# Altium schematic symbol library _Library.SchLib: 5 symbols
Pins are listed as number, name and electrical type; pins without a type are passive.

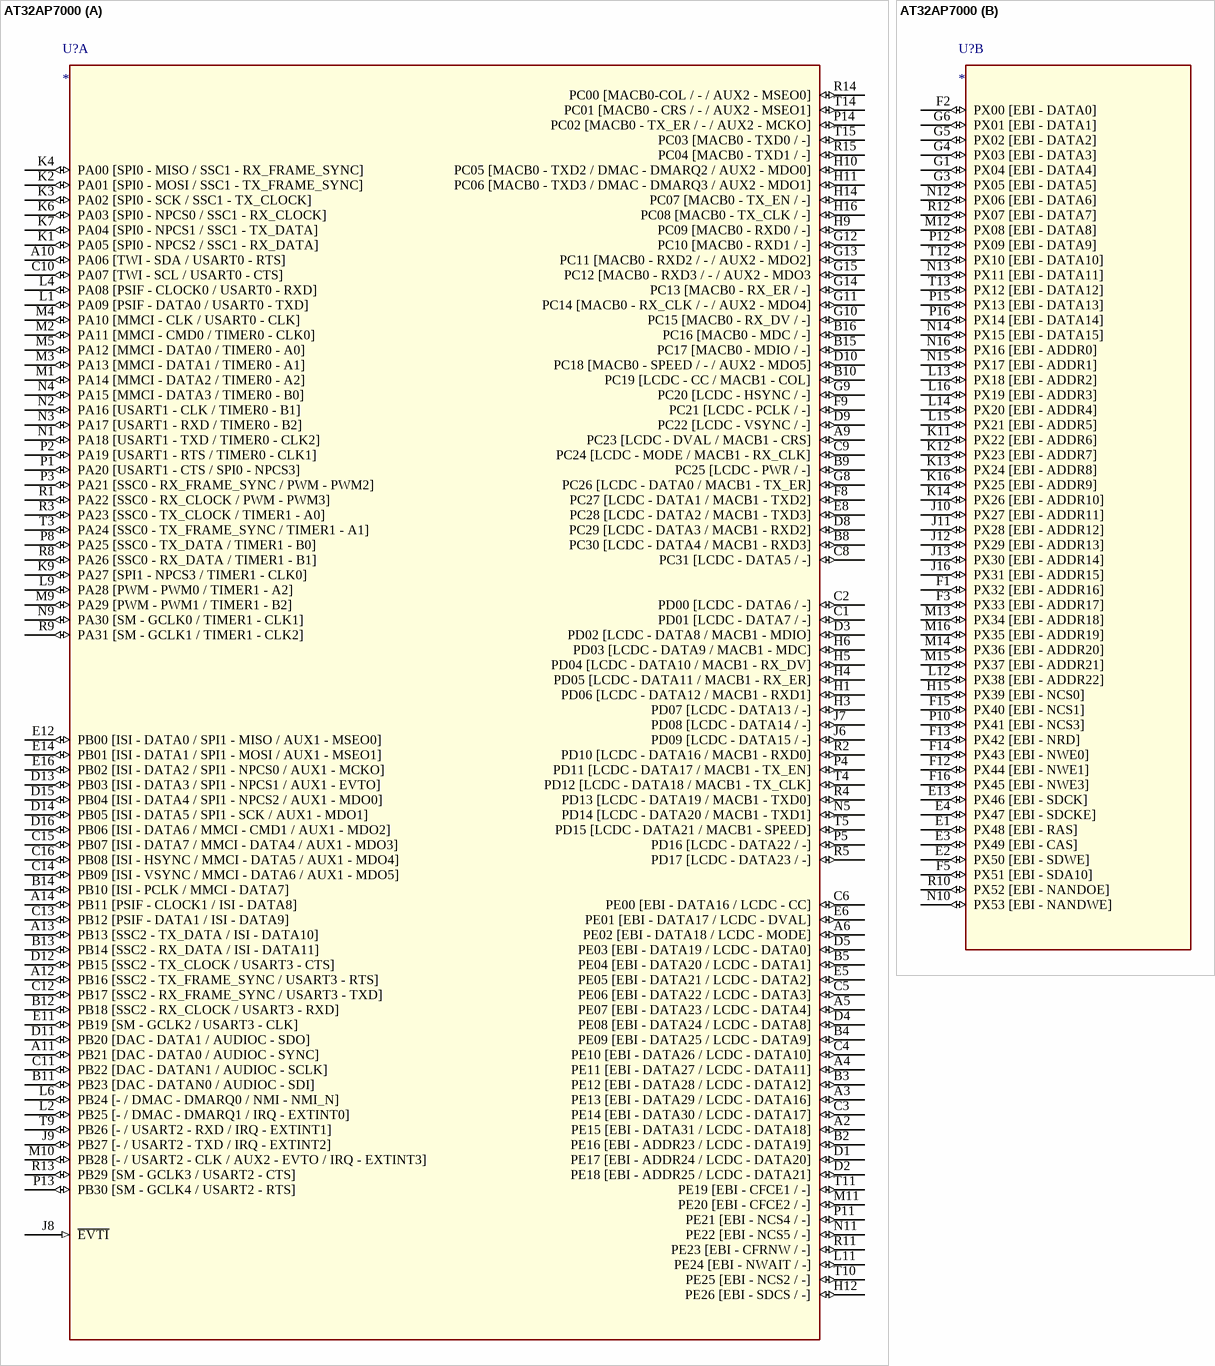
[diagram p0: symbol AT32AP7000]

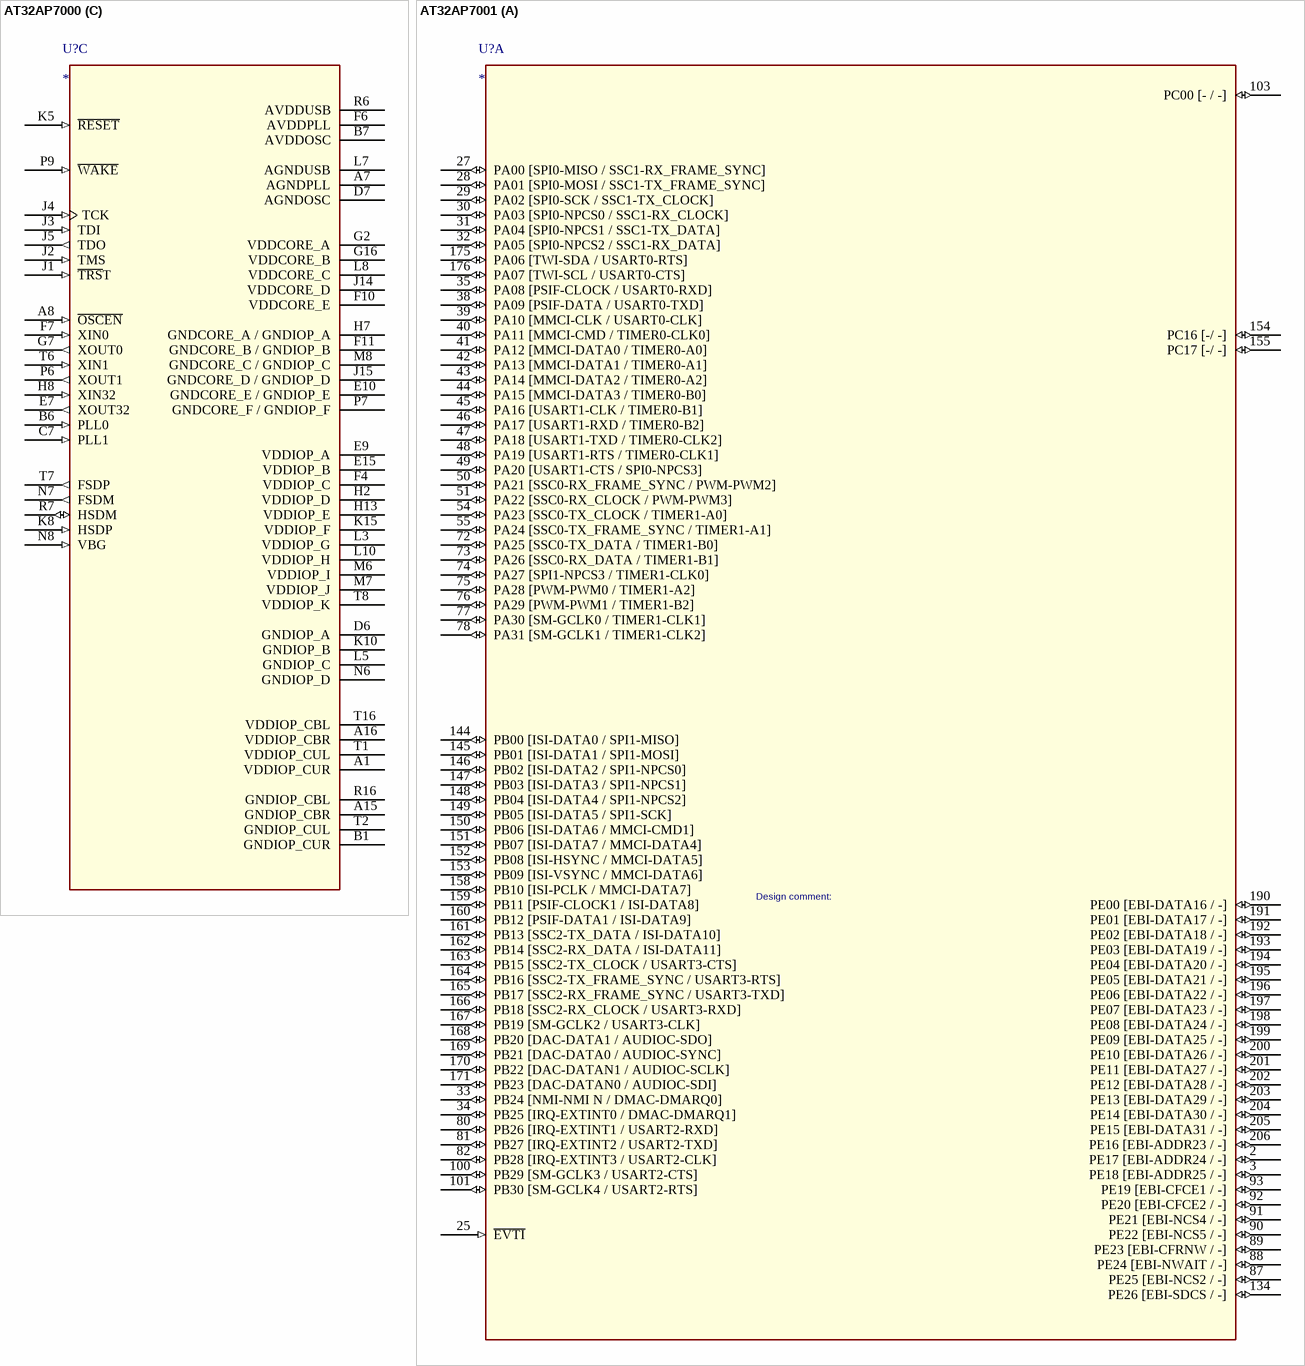
[diagram p1: symbols AT32AP7000 to AT32AP7001]

## AT32AP7000
designator U?
footprint BGA256C100P16X16_1700X1700X350 (BGA, 256-Leads, Body 17,0x17,0mm,  Pitch 1,00mm)
part A pins: A2 PE15 [EBI - DATA31 / LCDC - DATA18] (io), A3 PE13 [EBI - DATA29 / LCDC - DATA16] (io), A4 PE11 [EBI - DATA27 / LCDC - DATA11] (io), A5 PE07 [EBI - DATA23 / LCDC - DATA4] (io), A6 PE02 [EBI - DATA18 / LCDC - MODE] (io), A9 PC23 [LCDC - DVAL / MACB1 - CRS] (io), A10 PA06 [TWI - SDA / USART0 - RTS] (io), A11 PB21 [DAC - DATA0 / AUDIOC - SYNC] (io), A12 PB16 [SSC2 - TX_FRAME_SYNC / USART3 - RTS] (io), A13 PB13 [SSC2 - TX_DATA / ISI - DATA10] (io), A14 PB11 [PSIF - CLOCK1 / ISI - DATA8] (io), B2 PE16 [EBI - ADDR23 / LCDC - DATA19] (io), B3 PE12 [EBI - DATA28 / LCDC - DATA12] (io), B4 PE09 [EBI - DATA25 / LCDC - DATA9] (io), B5 PE04 [EBI - DATA20 / LCDC - DATA1] (io), B8 PC30 [LCDC - DATA4 / MACB1 - RXD3] (io), B9 PC25 [LCDC - PWR / -] (io), B10 PC19 [LCDC - CC / MACB1 - COL] (io), B11 PB23 [DAC - DATAN0 / AUDIOC - SDI] (io), B12 PB18 [SSC2 - RX_CLOCK / USART3 - RXD] (io), B13 PB14 [SSC2 - RX_DATA / ISI - DATA11] (io), B14 PB10 [ISI - PCLK / MMCI - DATA7] (io), B15 PC17 [MACB0 - MDIO / -] (io), B16 PC16 [MACB0 - MDC / -] (io), C1 PD01 [LCDC - DATA7 / -] (io), C2 PD00 [LCDC - DATA6 / -] (io), C3 PE14 [EBI - DATA30 / LCDC - DATA17] (io), C4 PE10 [EBI - DATA26 / LCDC - DATA10] (io), C5 PE06 [EBI - DATA22 / LCDC - DATA3] (io), C6 PE00 [EBI - DATA16 / LCDC - CC] (io), C8 PC31 [LCDC - DATA5 / -] (io), C9 PC24 [LCDC - MODE / MACB1 - RX_CLK] (io), C10 PA07 [TWI - SCL / USART0 - CTS] (io), C11 PB22 [DAC - DATAN1 / AUDIOC - SCLK] (io), C12 PB17 [SSC2 - RX_FRAME_SYNC / USART3 - TXD] (io), C13 PB12 [PSIF - DATA1 / ISI - DATA9] (io), C14 PB09 [ISI - VSYNC / MMCI - DATA6 / AUX1 - MDO5] (io), C15 PB07 [ISI - DATA7 / MMCI - DATA4 / AUX1 - MDO3] (io), C16 PB08 [ISI - HSYNC / MMCI - DATA5 / AUX1 - MDO4] (io), D1 PE17 [EBI - ADDR24 / LCDC - DATA20] (io), D2 PE18 [EBI - ADDR25 / LCDC - DATA21] (io), D3 PD02 [LCDC - DATA8 / MACB1 - MDIO] (io), D4 PE08 [EBI - DATA24 / LCDC - DATA8] (io), D5 PE03 [EBI - DATA19 / LCDC - DATA0] (io), D8 PC29 [LCDC - DATA3 / MACB1 - RXD2] (io), D9 PC22 [LCDC - VSYNC / -] (io), D10 PC18 [MACB0 - SPEED / - / AUX2 - MDO5] (io), D11 PB20 [DAC - DATA1 / AUDIOC - SDO] (io), D12 PB15 [SSC2 - TX_CLOCK / USART3 - CTS] (io), D13 PB03 [ISI - DATA3 / SPI1 - NPCS1 / AUX1 - EVTO] (io), D14 PB05 [ISI - DATA5 / SPI1 - SCK / AUX1 - MDO1] (io), D15 PB04 [ISI - DATA4 / SPI1 - NPCS2 / AUX1 - MDO0] (io), D16 PB06 [ISI - DATA6 / MMCI - CMD1 / AUX1 - MDO2] (io), E5 PE05 [EBI - DATA21 / LCDC - DATA2] (io), E6 PE01 [EBI - DATA17 / LCDC - DVAL] (io), E8 PC28 [LCDC - DATA2 / MACB1 - TXD3] (io), E11 PB19 [SM - GCLK2 / USART3 - CLK] (io), E12 PB00 [ISI - DATA0 / SPI1 - MISO / AUX1 - MSEO0] (io), E14 PB01 [ISI - DATA1 / SPI1 - MOSI / AUX1 - MSEO1] (io), E16 PB02 [ISI - DATA2 / SPI1 - NPCS0 / AUX1 - MCKO] (io), F8 PC27 [LCDC - DATA1 / MACB1 - TXD2] (io), F9 PC21 [LCDC - PCLK / -] (io), G8 PC26 [LCDC - DATA0 / MACB1 - TX_ER] (io), G9 PC20 [LCDC - HSYNC / -] (io), G10 PC15 [MACB0 - RX_DV / -] (io), G11 PC14 [MACB0 - RX_CLK / - / AUX2 - MDO4] (io), G12 PC10 [MACB0 - RXD1 / -] (io), G13 PC11 [MACB0 - RXD2 / - / AUX2 - MDO2] (io), G14 PC13 [MACB0 - RX_ER / -] (io), G15 PC12 [MACB0 - RXD3 / - / AUX2 - MDO3 (io), H1 PD06 [LCDC - DATA12 / MACB1 - RXD1] (io), H3 PD07 [LCDC - DATA13 / -] (io), H4 PD05 [LCDC - DATA11 / MACB1 - RX_ER] (io), H5 PD04 [LCDC - DATA10 / MACB1 - RX_DV] (io), H6 PD03 [LCDC - DATA9 / MACB1 - MDC] (io), H9 PC09 [MACB0 - RXD0 / -] (io), H10 PC05 [MACB0 - TXD2 / DMAC - DMARQ2 / AUX2 - MDO0] (io), H11 PC06 [MACB0 - TXD3 / DMAC - DMARQ3 / AUX2 - MDO1] (io), H12 PE26 [EBI - SDCS / -] (io), H14 PC07 [MACB0 - TX_EN / -] (io), H16 PC08 [MACB0 - TX_CLK / -] (io), J6 PD09 [LCDC - DATA15 / -] (io), J7 PD08 [LCDC - DATA14 / -] (io), J8 ~{EVTI} (in), J9 PB27 [- / USART2 - TXD / IRQ - EXTINT2] (io), K1 PA05 [SPI0 - NPCS2 / SSC1 - RX_DATA] (io), K2 PA01 [SPI0 - MOSI / SSC1 - TX_FRAME_SYNC] (io), K3 PA02 [SPI0 - SCK / SSC1 - TX_CLOCK] (io), K4 PA00 [SPI0 - MISO / SSC1 - RX_FRAME_SYNC] (io), K6 PA03 [SPI0 - NPCS0 / SSC1 - RX_CLOCK] (io), K7 PA04 [SPI0 - NPCS1 / SSC1 - TX_DATA] (io), K9 PA27 [SPI1 - NPCS3 / TIMER1 - CLK0] (io), L1 PA09 [PSIF - DATA0 / USART0 - TXD] (io), L2 PB25 [- / DMAC - DMARQ1 / IRQ - EXTINT0] (io), L4 PA08 [PSIF - CLOCK0 / USART0 - RXD] (io), L6 PB24 [- / DMAC - DMARQ0 / NMI - NMI_N] (io), L9 PA28 [PWM - PWM0 / TIMER1 - A2] (io), L11 PE24 [EBI - NWAIT / -] (io), M1 PA14 [MMCI - DATA2 / TIMER0 - A2] (io), M2 PA11 [MMCI - CMD0 / TIMER0 - CLK0] (io), M3 PA13 [MMCI - DATA1 / TIMER0 - A1] (io), M4 PA10 [MMCI - CLK / USART0 - CLK] (io), M5 PA12 [MMCI - DATA0 / TIMER0 - A0] (io), M9 PA29 [PWM - PWM1 / TIMER1 - B2] (io), M10 PB28 [- / USART2 - CLK / AUX2 - EVTO / IRQ - EXTINT3] (io), M11 PE20 [EBI - CFCE2 / -] (io), N1 PA18 [USART1 - TXD / TIMER0 - CLK2] (io), N2 PA16 [USART1 - CLK / TIMER0 - B1] (io), N3 PA17 [USART1 - RXD / TIMER0 - B2] (io), N4 PA15 [MMCI - DATA3 / TIMER0 - B0] (io), N5 PD14 [LCDC - DATA20 / MACB1 - TXD1] (io), N9 PA30 [SM - GCLK0 / TIMER1 - CLK1] (io), N11 PE22 [EBI - NCS5 / -] (io), P1 PA20 [USART1 - CTS / SPI0 - NPCS3] (io), P2 PA19 [USART1 - RTS / TIMER0 - CLK1] (io), P3 PA21 [SSC0 - RX_FRAME_SYNC / PWM - PWM2] (io), P4 PD11 [LCDC - DATA17 / MACB1 - TX_EN] (io), P5 PD16 [LCDC - DATA22 / -] (io), P8 PA25 [SSC0 - TX_DATA / TIMER1 - B0] (io), P11 PE21 [EBI - NCS4 / -] (io), P13 PB30 [SM - GCLK4 / USART2 - RTS] (io), P14 PC02 [MACB0 - TX_ER / - / AUX2 - MCKO] (io), R1 PA22 [SSC0 - RX_CLOCK / PWM - PWM3] (io), R2 PD10 [LCDC - DATA16 / MACB1 - RXD0] (io), R3 PA23 [SSC0 - TX_CLOCK / TIMER1 - A0] (io), R4 PD13 [LCDC - DATA19 / MACB1 - TXD0] (io), R5 PD17 [LCDC - DATA23 / -] (io), R8 PA26 [SSC0 - RX_DATA / TIMER1 - B1] (io), R9 PA31 [SM - GCLK1 / TIMER1 - CLK2] (io), R11 PE23 [EBI - CFRNW / -] (io), R13 PB29 [SM - GCLK3 / USART2 - CTS] (io), R14 PC00 [MACB0-COL / - / AUX2 - MSEO0] (io), R15 PC04 [MACB0 - TXD1 / -] (io), T3 PA24 [SSC0 - TX_FRAME_SYNC / TIMER1 - A1] (io), T4 PD12 [LCDC - DATA18 / MACB1 - TX_CLK] (io), T5 PD15 [LCDC - DATA21 / MACB1 - SPEED] (io), T9 PB26 [- / USART2 - RXD / IRQ - EXTINT1] (io), T10 PE25 [EBI - NCS2 / -] (io), T11 PE19 [EBI - CFCE1 / -] (io), T14 PC01 [MACB0 - CRS / - / AUX2 - MSEO1] (io), T15 PC03 [MACB0 - TXD0 / -] (io)
part B pins: E1 PX48 [EBI - RAS] (io), E2 PX50 [EBI - SDWE] (io), E3 PX49 [EBI - CAS] (io), E4 PX47 [EBI - SDCKE] (io), E13 PX46 [EBI - SDCK] (io), F1 PX32 [EBI - ADDR16] (io), F2 PX00 [EBI - DATA0] (io), F3 PX33 [EBI - ADDR17] (io), F5 PX51 [EBI - SDA10] (io), F12 PX44 [EBI - NWE1] (io), F13 PX42 [EBI - NRD] (io), F14 PX43 [EBI - NWE0] (io), F15 PX40 [EBI - NCS1] (io), F16 PX45 [EBI - NWE3] (io), G1 PX04 [EBI - DATA4] (io), G3 PX05 [EBI - DATA5] (io), G4 PX03 [EBI - DATA3] (io), G5 PX02 [EBI - DATA2] (io), G6 PX01 [EBI - DATA1] (io), H15 PX39 [EBI - NCS0] (io), J10 PX27 [EBI - ADDR11] (io), J11 PX28 [EBI - ADDR12] (io), J12 PX29 [EBI - ADDR13] (io), J13 PX30 [EBI - ADDR14] (io), J16 PX31 [EBI - ADDR15] (io), K11 PX22 [EBI - ADDR6] (io), K12 PX23 [EBI - ADDR7] (io), K13 PX24 [EBI - ADDR8] (io), K14 PX26 [EBI - ADDR10] (io), K16 PX25 [EBI - ADDR9] (io), L12 PX38 [EBI - ADDR22] (io), L13 PX18 [EBI - ADDR2] (io), L14 PX20 [EBI - ADDR4] (io), L15 PX21 [EBI - ADDR5] (io), L16 PX19 [EBI - ADDR3] (io), M12 PX08 [EBI - DATA8] (io), M13 PX34 [EBI - ADDR18] (io), M14 PX36 [EBI - ADDR20] (io), M15 PX37 [EBI - ADDR21] (io), M16 PX35 [EBI - ADDR19] (io), N10 PX53 [EBI - NANDWE] (io), N12 PX06 [EBI - DATA6] (io), N13 PX11 [EBI - DATA11] (io), N14 PX15 [EBI - DATA15] (io), N15 PX17 [EBI - ADDR1] (io), N16 PX16 [EBI - ADDR0] (io), P10 PX41 [EBI - NCS3] (io), P12 PX09 [EBI - DATA9] (io), P15 PX13 [EBI - DATA13] (io), P16 PX14 [EBI - DATA14] (io), R10 PX52 [EBI - NANDOE] (io), R12 PX07 [EBI - DATA7] (io), T12 PX10 [EBI - DATA10] (io), T13 PX12 [EBI - DATA12] (io)
part C pins: A1 VDDIOP_CUR (power), A7 AGNDPLL (power), A8 ~{OSCEN} (in), A15 GNDIOP_CBR (power), A16 VDDIOP_CBR (power), B1 GNDIOP_CUR (power), B6 PLL0 (in), B7 AVDDOSC (power), C7 PLL1 (in), D6 GNDIOP_A (power), D7 AGNDOSC (power), E7 XOUT32 (out), E9 VDDIOP_A (power), E10 GNDCORE_E / GNDIOP_E (power), E15 VDDIOP_B (power), F4 VDDIOP_C (power), F6 AVDDPLL (power), F7 XIN0 (in), F10 VDDCORE_E (power), F11 GNDCORE_B / GNDIOP_B (power), G2 VDDCORE_A (power), G7 XOUT0 (out), G16 VDDCORE_B (power), H2 VDDIOP_D (power), H7 GNDCORE_A / GNDIOP_A (power), H8 XIN32 (in), H13 VDDIOP_E (power), J1 ~{TRS}T (in), J2 TMS (in), J3 TDI (in), J4 TCK (in), J5 TDO (out), J14 VDDCORE_D (power), J15 GNDCORE_D / GNDIOP_D (power), K5 ~{RESET} (in), K8 HSDP (in), K10 GNDIOP_B (power), K15 VDDIOP_F (power), L3 VDDIOP_G (power), L5 GNDIOP_C (power), L7 AGNDUSB (power), L8 VDDCORE_C (power), L10 VDDIOP_H (power), M6 VDDIOP_I (power), M7 VDDIOP_J (power), M8 GNDCORE_C / GNDIOP_C (power), N6 GNDIOP_D (power), N7 FSDM (out), N8 VBG (in), P6 XOUT1 (out), P7 GNDCORE_F / GNDIOP_F (power), P9 ~{WAKE} (in), R6 AVDDUSB (power), R7 HSDM (io), R16 GNDIOP_CBL (power), T1 VDDIOP_CUL (power), T2 GNDIOP_CUL (power), T6 XIN1 (in), T7 FSDP (out), T8 VDDIOP_K (power), T16 VDDIOP_CBL (power)

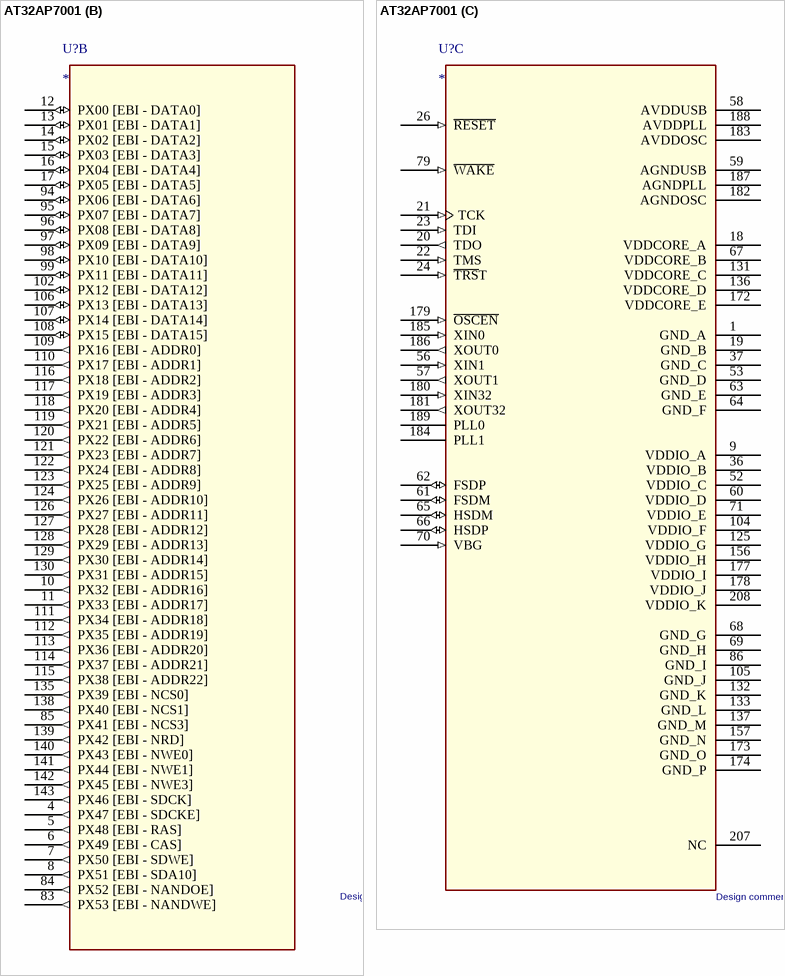
[diagram p2: symbol AT32AP7001]

## AT32AP7001
designator U?
part A pins: 2 PE17 [EBI-ADDR24 / -] (io), 3 PE18 [EBI-ADDR25 / -] (io), 25 ~{EVTI} (in), 27 PA00 [SPI0-MISO / SSC1-RX_FRAME_SYNC] (io), 28 PA01 [SPI0-MOSI / SSC1-TX_FRAME_SYNC] (io), 29 PA02 [SPI0-SCK / SSC1-TX_CLOCK] (io), 30 PA03 [SPI0-NPCS0 / SSC1-RX_CLOCK] (io), 31 PA04 [SPI0-NPCS1 / SSC1-TX_DATA] (io), 32 PA05 [SPI0-NPCS2 / SSC1-RX_DATA] (io), 33 PB24 [NMI-NMI N / DMAC-DMARQ0] (io), 34 PB25 [IRQ-EXTINT0 / DMAC-DMARQ1] (io), 35 PA08 [PSIF-CLOCK / USART0-RXD] (io), 38 PA09 [PSIF-DATA / USART0-TXD] (io), 39 PA10 [MMCI-CLK / USART0-CLK] (io), 40 PA11 [MMCI-CMD / TIMER0-CLK0] (io), 41 PA12 [MMCI-DATA0 / TIMER0-A0] (io), 42 PA13 [MMCI-DATA1 / TIMER0-A1] (io), 43 PA14 [MMCI-DATA2 / TIMER0-A2] (io), 44 PA15 [MMCI-DATA3 / TIMER0-B0] (io), 45 PA16 [USART1-CLK / TIMER0-B1] (io), 46 PA17 [USART1-RXD / TIMER0-B2] (io), 47 PA18 [USART1-TXD / TIMER0-CLK2] (io), 48 PA19 [USART1-RTS / TIMER0-CLK1] (io), 49 PA20 [USART1-CTS / SPI0-NPCS3] (io), 50 PA21 [SSC0-RX_FRAME_SYNC / PWM-PWM2] (io), 51 PA22 [SSC0-RX_CLOCK / PWM-PWM3] (io), 54 PA23 [SSC0-TX_CLOCK / TIMER1-A0] (io), 55 PA24 [SSC0-TX_FRAME_SYNC / TIMER1-A1] (io), 72 PA25 [SSC0-TX_DATA / TIMER1-B0] (io), 73 PA26 [SSC0-RX_DATA / TIMER1-B1] (io), 74 PA27 [SPI1-NPCS3 / TIMER1-CLK0] (io), 75 PA28 [PWM-PWM0 / TIMER1-A2] (io), 76 PA29 [PWM-PWM1 / TIMER1-B2] (io), 77 PA30 [SM-GCLK0 / TIMER1-CLK1] (io), 78 PA31 [SM-GCLK1 / TIMER1-CLK2] (io), 80 PB26 [IRQ-EXTINT1 / USART2-RXD] (io), 81 PB27 [IRQ-EXTINT2 / USART2-TXD] (io), 82 PB28 [IRQ-EXTINT3 / USART2-CLK] (io), 87 PE25 [EBI-NCS2 / -] (io), 88 PE24 [EBI-NWAIT / -] (io), 89 PE23 [EBI-CFRNW / -] (io), 90 PE22 [EBI-NCS5 / -] (io), 91 PE21 [EBI-NCS4 / -] (io), 92 PE20 [EBI-CFCE2 / -] (io), 93 PE19 [EBI-CFCE1 / -] (io), 100 PB29 [SM-GCLK3 / USART2-CTS] (io), 101 PB30 [SM-GCLK4 / USART2-RTS] (io), 103 PC00 [- / -] (io), 134 PE26 [EBI-SDCS / -] (io), 144 PB00 [ISI-DATA0 / SPI1-MISO] (io), 145 PB01 [ISI-DATA1 / SPI1-MOSI] (io), 146 PB02 [ISI-DATA2 / SPI1-NPCS0] (io), 147 PB03 [ISI-DATA3 / SPI1-NPCS1] (io), 148 PB04 [ISI-DATA4 / SPI1-NPCS2] (io), 149 PB05 [ISI-DATA5 / SPI1-SCK] (io), 150 PB06 [ISI-DATA6 / MMCI-CMD1] (io), 151 PB07 [ISI-DATA7 / MMCI-DATA4] (io), 152 PB08 [ISI-HSYNC / MMCI-DATA5] (io), 153 PB09 [ISI-VSYNC / MMCI-DATA6] (io), 154 PC16 [-/ -] (io), 155 PC17 [-/ -] (io), 158 PB10 [ISI-PCLK / MMCI-DATA7] (io), 159 PB11 [PSIF-CLOCK1 / ISI-DATA8] (io), 160 PB12 [PSIF-DATA1 / ISI-DATA9] (io), 161 PB13 [SSC2-TX_DATA / ISI-DATA10] (io), 162 PB14 [SSC2-RX_DATA / ISI-DATA11] (io), 163 PB15 [SSC2-TX_CLOCK / USART3-CTS] (io), 164 PB16 [SSC2-TX_FRAME_SYNC / USART3-RTS] (io), 165 PB17 [SSC2-RX_FRAME_SYNC / USART3-TXD] (io), 166 PB18 [SSC2-RX_CLOCK / USART3-RXD] (io), 167 PB19 [SM-GCLK2 / USART3-CLK] (io), 168 PB20 [DAC-DATA1 / AUDIOC-SDO] (io), 169 PB21 [DAC-DATA0 / AUDIOC-SYNC] (io), 170 PB22 [DAC-DATAN1 / AUDIOC-SCLK] (io), 171 PB23 [DAC-DATAN0 / AUDIOC-SDI] (io), 175 PA06 [TWI-SDA / USART0-RTS] (io), 176 PA07 [TWI-SCL / USART0-CTS] (io), 190 PE00 [EBI-DATA16 / -] (io), 191 PE01 [EBI-DATA17 / -] (io), 192 PE02 [EBI-DATA18 / -] (io), 193 PE03 [EBI-DATA19 / -] (io), 194 PE04 [EBI-DATA20 / -] (io), 195 PE05 [EBI-DATA21 / -] (io), 196 PE06 [EBI-DATA22 / -] (io), 197 PE07 [EBI-DATA23 / -] (io), 198 PE08 [EBI-DATA24 / -] (io), 199 PE09 [EBI-DATA25 / -] (io), 200 PE10 [EBI-DATA26 / -] (io), 201 PE11 [EBI-DATA27 / -] (io), 202 PE12 [EBI-DATA28 / -] (io), 203 PE13 [EBI-DATA29 / -] (io), 204 PE14 [EBI-DATA30 / -] (io), 205 PE15 [EBI-DATA31 / -] (io), 206 PE16 [EBI-ADDR23 / -] (io)
part B pins: 4 PX47 [EBI - SDCKE] (out), 5 PX48 [EBI - RAS] (out), 6 PX49 [EBI - CAS] (out), 7 PX50 [EBI - SDWE] (out), 8 PX51 [EBI - SDA10] (out), 10 PX32 [EBI - ADDR16] (out), 11 PX33 [EBI - ADDR17] (out), 12 PX00 [EBI - DATA0] (io), 13 PX01 [EBI - DATA1] (io), 14 PX02 [EBI - DATA2] (io), 15 PX03 [EBI - DATA3] (io), 16 PX04 [EBI - DATA4] (io), 17 PX05 [EBI - DATA5] (io), 83 PX53 [EBI - NANDWE] (out), 84 PX52 [EBI - NANDOE] (out), 85 PX41 [EBI - NCS3] (out), 94 PX06 [EBI - DATA6] (io), 95 PX07 [EBI - DATA7] (io), 96 PX08 [EBI - DATA8] (io), 97 PX09 [EBI - DATA9] (io), 98 PX10 [EBI - DATA10] (io), 99 PX11 [EBI - DATA11] (io), 102 PX12 [EBI - DATA12] (io), 106 PX13 [EBI - DATA13] (io), 107 PX14 [EBI - DATA14] (io), 108 PX15 [EBI - DATA15] (io), 109 PX16 [EBI - ADDR0] (out), 110 PX17 [EBI - ADDR1] (out), 111 PX34 [EBI - ADDR18] (out), 112 PX35 [EBI - ADDR19] (out), 113 PX36 [EBI - ADDR20] (out), 114 PX37 [EBI - ADDR21] (out), 115 PX38 [EBI - ADDR22] (out), 116 PX18 [EBI - ADDR2] (out), 117 PX19 [EBI - ADDR3] (out), 118 PX20 [EBI - ADDR4] (out), 119 PX21 [EBI - ADDR5] (out), 120 PX22 [EBI - ADDR6] (out), 121 PX23 [EBI - ADDR7] (out), 122 PX24 [EBI - ADDR8] (out), 123 PX25 [EBI - ADDR9] (out), 124 PX26 [EBI - ADDR10] (out), 126 PX27 [EBI - ADDR11] (out), 127 PX28 [EBI - ADDR12] (out), 128 PX29 [EBI - ADDR13] (out), 129 PX30 [EBI - ADDR14] (out), 130 PX31 [EBI - ADDR15] (out), 135 PX39 [EBI - NCS0] (out), 138 PX40 [EBI - NCS1] (out), 139 PX42 [EBI - NRD] (out), 140 PX43 [EBI - NWE0] (out), 141 PX44 [EBI - NWE1] (out), 142 PX45 [EBI - NWE3] (out), 143 PX46 [EBI - SDCK] (out)
part C pins: 1 GND_A (power), 9 VDDIO_A (power), 18 VDDCORE_A (power), 19 GND_B (power), 20 TDO (out), 21 TCK (in), 22 TMS (in), 23 TDI (in), 24 ~{TRS}T (in), 26 ~{RESET} (in), 36 VDDIO_B (power), 37 GND_C (power), 52 VDDIO_C (power), 53 GND_D (power), 56 XIN1 (in), 57 XOUT1 (out), 58 AVDDUSB (power), 59 AGNDUSB (power), 60 VDDIO_D (power), 61 FSDM (io), 62 FSDP (io), 63 GND_E (power), 64 GND_F (power), 65 HSDM (io), 66 HSDP (io), 67 VDDCORE_B (power), 68 GND_G (power), 69 GND_H (power), 70 VBG (in), 71 VDDIO_E (power), 79 ~{WAKE} (in), 86 GND_I (power), 104 VDDIO_F (power), 105 GND_J (power), 125 VDDIO_G (power), 131 VDDCORE_C (power), 132 GND_K (power), 133 GND_L (power), 136 VDDCORE_D (power), 137 GND_M (power), 156 VDDIO_H (power), 157 GND_N (power), 172 VDDCORE_E (power), 173 GND_O (power), 174 GND_P (power), 177 VDDIO_I (power), 178 VDDIO_J (power), 179 ~{OSCEN} (in), 180 XIN32 (in), 181 XOUT32 (out), 182 AGNDOSC (power), 183 AVDDOSC (power), 184 PLL1, 185 XIN0 (in), 186 XOUT0 (out), 187 AGNDPLL (power), 188 AVDDPLL (power), 189 PLL0, 207 NC, 208 VDDIO_K (power)

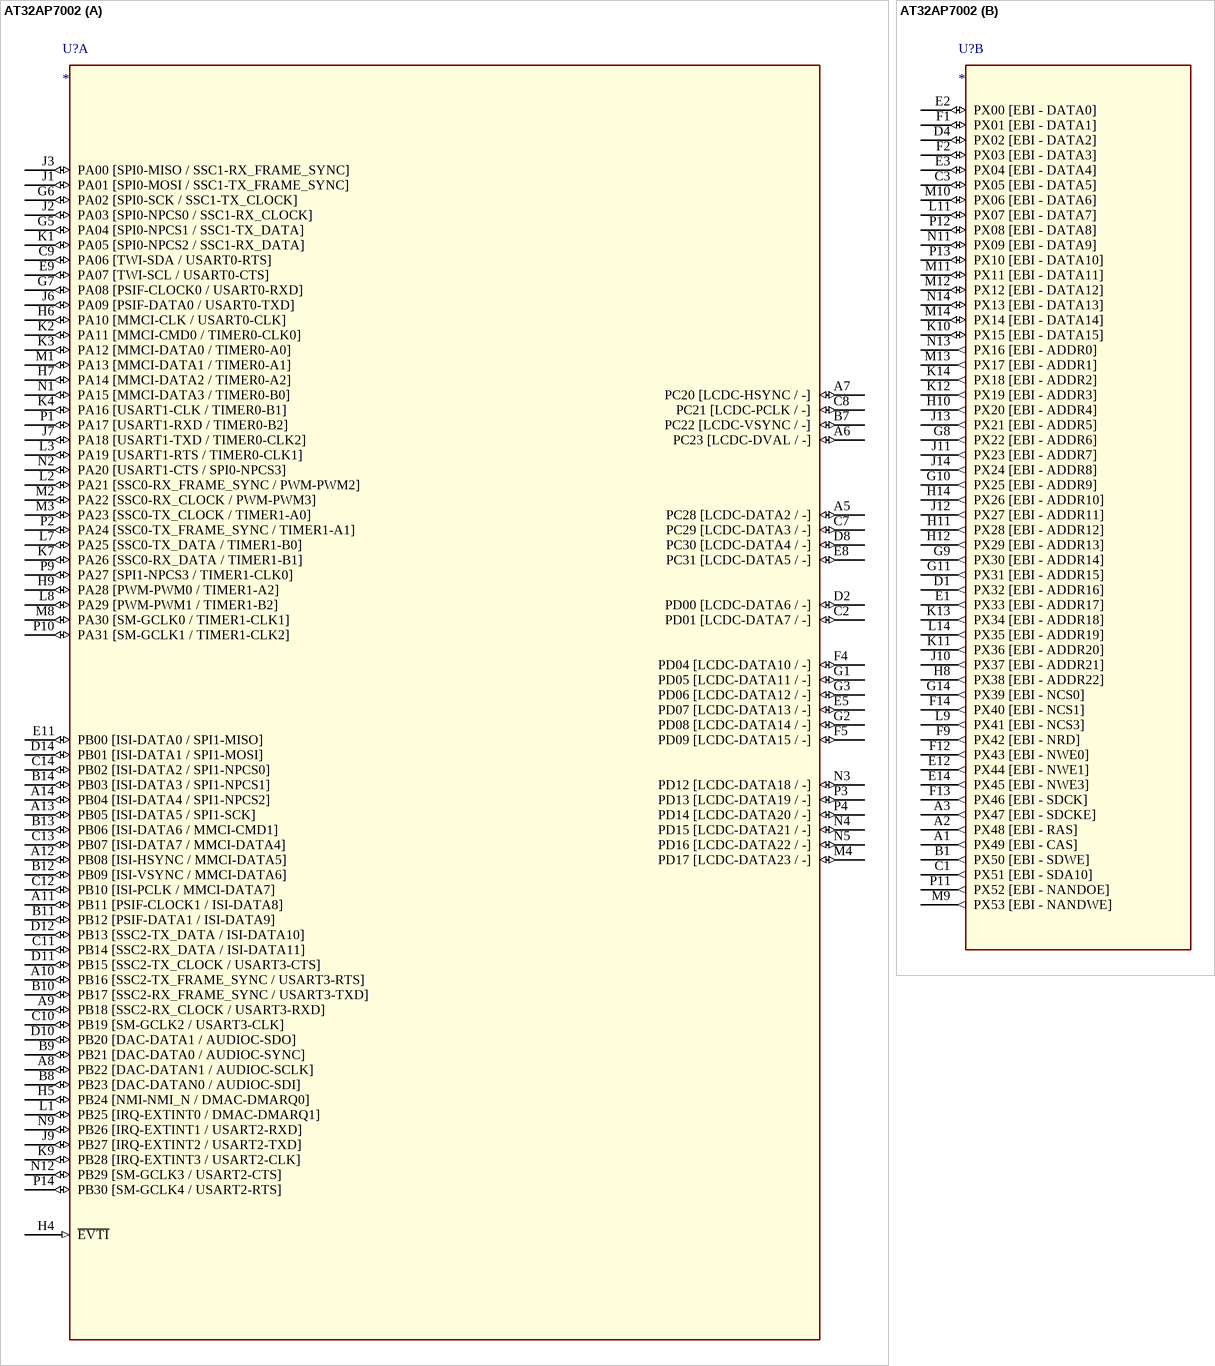
[diagram p3: symbol AT32AP7002]

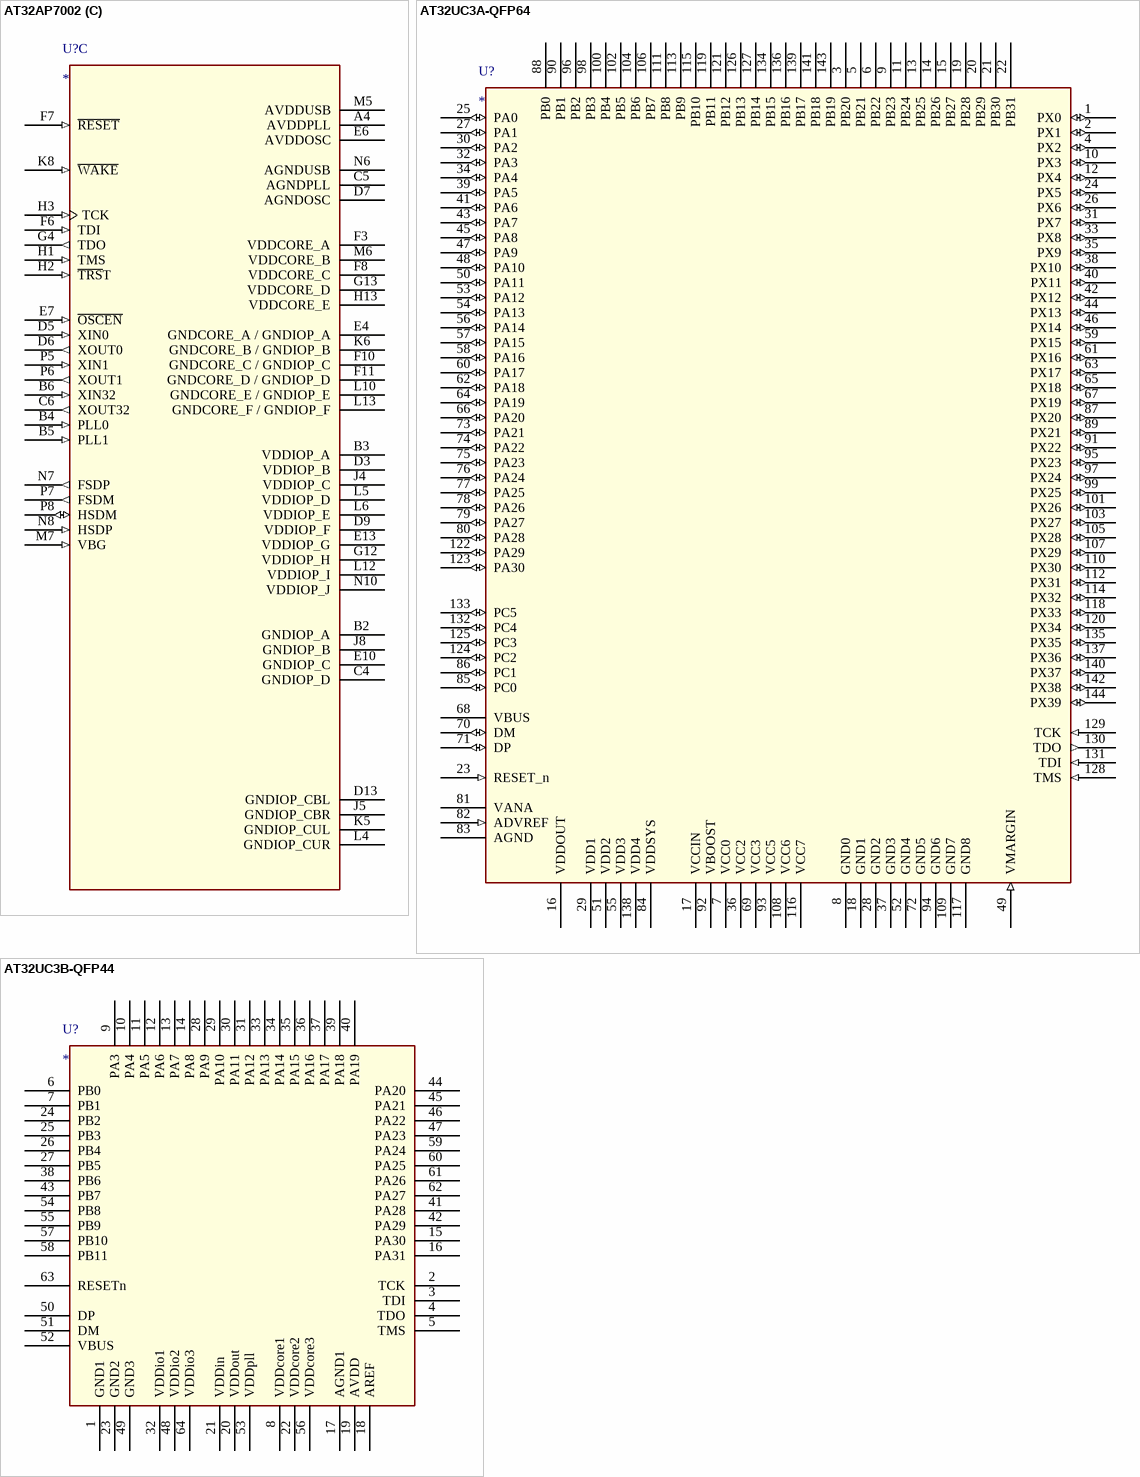
[diagram p4: symbols AT32AP7002 to AT32UC3B-QFP44]

## AT32AP7002
designator U?
part A pins: A5 PC28 [LCDC-DATA2 / -] (io), A6 PC23 [LCDC-DVAL / -] (io), A7 PC20 [LCDC-HSYNC / -] (io), A8 PB22 [DAC-DATAN1 / AUDIOC-SCLK] (io), A9 PB18 [SSC2-RX_CLOCK / USART3-RXD] (io), A10 PB16 [SSC2-TX_FRAME_SYNC / USART3-RTS] (io), A11 PB11 [PSIF-CLOCK1 / ISI-DATA8] (io), A12 PB08 [ISI-HSYNC / MMCI-DATA5] (io), A13 PB05 [ISI-DATA5 / SPI1-SCK] (io), A14 PB04 [ISI-DATA4 / SPI1-NPCS2] (io), B7 PC22 [LCDC-VSYNC / -] (io), B8 PB23 [DAC-DATAN0 / AUDIOC-SDI] (io), B9 PB21 [DAC-DATA0 / AUDIOC-SYNC] (io), B10 PB17 [SSC2-RX_FRAME_SYNC / USART3-TXD] (io), B11 PB12 [PSIF-DATA1 / ISI-DATA9] (io), B12 PB09 [ISI-VSYNC / MMCI-DATA6] (io), B13 PB06 [ISI-DATA6 / MMCI-CMD1] (io), B14 PB03 [ISI-DATA3 / SPI1-NPCS1] (io), C2 PD01 [LCDC-DATA7 / -] (io), C7 PC29 [LCDC-DATA3 / -] (io), C8 PC21 [LCDC-PCLK / -] (io), C9 PA06 [TWI-SDA / USART0-RTS] (io), C10 PB19 [SM-GCLK2 / USART3-CLK] (io), C11 PB14 [SSC2-RX_DATA / ISI-DATA11] (io), C12 PB10 [ISI-PCLK / MMCI-DATA7] (io), C13 PB07 [ISI-DATA7 / MMCI-DATA4] (io), C14 PB02 [ISI-DATA2 / SPI1-NPCS0] (io), D2 PD00 [LCDC-DATA6 / -] (io), D8 PC30 [LCDC-DATA4 / -] (io), D10 PB20 [DAC-DATA1 / AUDIOC-SDO] (io), D11 PB15 [SSC2-TX_CLOCK / USART3-CTS] (io), D12 PB13 [SSC2-TX_DATA / ISI-DATA10] (io), D14 PB01 [ISI-DATA1 / SPI1-MOSI] (io), E5 PD07 [LCDC-DATA13 / -] (io), E8 PC31 [LCDC-DATA5 / -] (io), E9 PA07 [TWI-SCL / USART0-CTS] (io), E11 PB00 [ISI-DATA0 / SPI1-MISO] (io), F4 PD04 [LCDC-DATA10 / -] (io), F5 PD09 [LCDC-DATA15 / -] (io), G1 PD05 [LCDC-DATA11 / -] (io), G2 PD08 [LCDC-DATA14 / -] (io), G3 PD06 [LCDC-DATA12 / -] (io), G5 PA04 [SPI0-NPCS1 / SSC1-TX_DATA] (io), G6 PA02 [SPI0-SCK / SSC1-TX_CLOCK] (io), G7 PA08 [PSIF-CLOCK0 / USART0-RXD] (io), H4 ~{EVTI} (in), H5 PB24 [NMI-NMI_N / DMAC-DMARQ0] (io), H6 PA10 [MMCI-CLK / USART0-CLK] (io), H7 PA14 [MMCI-DATA2 / TIMER0-A2] (io), H9 PA28 [PWM-PWM0 / TIMER1-A2] (io), J1 PA01 [SPI0-MOSI / SSC1-TX_FRAME_SYNC] (io), J2 PA03 [SPI0-NPCS0 / SSC1-RX_CLOCK] (io), J3 PA00 [SPI0-MISO / SSC1-RX_FRAME_SYNC] (io), J6 PA09 [PSIF-DATA0 / USART0-TXD] (io), J7 PA18 [USART1-TXD / TIMER0-CLK2] (io), J9 PB27 [IRQ-EXTINT2 / USART2-TXD] (io), K1 PA05 [SPI0-NPCS2 / SSC1-RX_DATA] (io), K2 PA11 [MMCI-CMD0 / TIMER0-CLK0] (io), K3 PA12 [MMCI-DATA0 / TIMER0-A0] (io), K4 PA16 [USART1-CLK / TIMER0-B1] (io), K7 PA26 [SSC0-RX_DATA / TIMER1-B1] (io), K9 PB28 [IRQ-EXTINT3 / USART2-CLK] (io), L1 PB25 [IRQ-EXTINT0 / DMAC-DMARQ1] (io), L2 PA21 [SSC0-RX_FRAME_SYNC / PWM-PWM2] (io), L3 PA19 [USART1-RTS / TIMER0-CLK1] (io), L7 PA25 [SSC0-TX_DATA / TIMER1-B0] (io), L8 PA29 [PWM-PWM1 / TIMER1-B2] (io), M1 PA13 [MMCI-DATA1 / TIMER0-A1] (io), M2 PA22 [SSC0-RX_CLOCK / PWM-PWM3] (io), M3 PA23 [SSC0-TX_CLOCK / TIMER1-A0] (io), M4 PD17 [LCDC-DATA23 / -] (io), M8 PA30 [SM-GCLK0 / TIMER1-CLK1] (io), N1 PA15 [MMCI-DATA3 / TIMER0-B0] (io), N2 PA20 [USART1-CTS / SPI0-NPCS3] (io), N3 PD12 [LCDC-DATA18 / -] (io), N4 PD15 [LCDC-DATA21 / -] (io), N5 PD16 [LCDC-DATA22 / -] (io), N9 PB26 [IRQ-EXTINT1 / USART2-RXD] (io), N12 PB29 [SM-GCLK3 / USART2-CTS] (io), P1 PA17 [USART1-RXD / TIMER0-B2] (io), P2 PA24 [SSC0-TX_FRAME_SYNC / TIMER1-A1] (io), P3 PD13 [LCDC-DATA19 / -] (io), P4 PD14 [LCDC-DATA20 / -] (io), P9 PA27 [SPI1-NPCS3 / TIMER1-CLK0] (io), P10 PA31 [SM-GCLK1 / TIMER1-CLK2] (io), P14 PB30 [SM-GCLK4 / USART2-RTS] (io)
part B pins: A1 PX49 [EBI - CAS] (out), A2 PX48 [EBI - RAS] (out), A3 PX47 [EBI - SDCKE] (out), B1 PX50 [EBI - SDWE] (out), C1 PX51 [EBI - SDA10] (out), C3 PX05 [EBI - DATA5] (io), D1 PX32 [EBI - ADDR16] (out), D4 PX02 [EBI - DATA2] (io), E1 PX33 [EBI - ADDR17] (out), E2 PX00 [EBI - DATA0] (io), E3 PX04 [EBI - DATA4] (io), E12 PX44 [EBI - NWE1] (out), E14 PX45 [EBI - NWE3] (out), F1 PX01 [EBI - DATA1] (io), F2 PX03 [EBI - DATA3] (io), F9 PX42 [EBI - NRD] (out), F12 PX43 [EBI - NWE0] (out), F13 PX46 [EBI - SDCK] (out), F14 PX40 [EBI - NCS1] (out), G8 PX22 [EBI - ADDR6] (out), G9 PX30 [EBI - ADDR14] (out), G10 PX25 [EBI - ADDR9] (out), G11 PX31 [EBI - ADDR15] (out), G14 PX39 [EBI - NCS0] (out), H8 PX38 [EBI - ADDR22] (out), H10 PX20 [EBI - ADDR4] (out), H11 PX28 [EBI - ADDR12] (out), H12 PX29 [EBI - ADDR13] (out), H14 PX26 [EBI - ADDR10] (out), J10 PX37 [EBI - ADDR21] (out), J11 PX23 [EBI - ADDR7] (out), J12 PX27 [EBI - ADDR11] (out), J13 PX21 [EBI - ADDR5] (out), J14 PX24 [EBI - ADDR8] (out), K10 PX15 [EBI - DATA15] (io), K11 PX36 [EBI - ADDR20] (out), K12 PX19 [EBI - ADDR3] (out), K13 PX34 [EBI - ADDR18] (out), K14 PX18 [EBI - ADDR2] (out), L9 PX41 [EBI - NCS3] (out), L11 PX07 [EBI - DATA7] (io), L14 PX35 [EBI - ADDR19] (out), M9 PX53 [EBI - NANDWE] (out), M10 PX06 [EBI - DATA6] (io), M11 PX11 [EBI - DATA11] (io), M12 PX12 [EBI - DATA12] (io), M13 PX17 [EBI - ADDR1] (out), M14 PX14 [EBI - DATA14] (io), N11 PX09 [EBI - DATA9] (io), N13 PX16 [EBI - ADDR0] (out), N14 PX13 [EBI - DATA13] (io), P11 PX52 [EBI - NANDOE] (out), P12 PX08 [EBI - DATA8] (io), P13 PX10 [EBI - DATA10] (io)
part C pins: A4 AVDDPLL (power), B2 GNDIOP_A (power), B3 VDDIOP_A (power), B4 PLL0 (in), B5 PLL1 (in), B6 XIN32 (in), C4 GNDIOP_D (power), C5 AGNDPLL (power), C6 XOUT32 (out), D3 VDDIOP_B (power), D5 XIN0 (in), D6 XOUT0 (out), D7 AGNDOSC (power), D9 VDDIOP_F (power), D13 GNDIOP_CBL (power), E4 GNDCORE_A / GNDIOP_A (power), E6 AVDDOSC (power), E7 ~{OSCEN} (in), E10 GNDIOP_C (power), E13 VDDIOP_G (power), F3 VDDCORE_A (power), F6 TDI (in), F7 ~{RESET} (in), F8 VDDCORE_C (power), F10 GNDCORE_C / GNDIOP_C (power), F11 GNDCORE_D / GNDIOP_D (power), G4 TDO (out), G12 VDDIOP_H (power), G13 VDDCORE_D (power), H1 TMS (in), H2 ~{TRS}T (in), H3 TCK (in), H13 VDDCORE_E (power), J4 VDDIOP_C (power), J5 GNDIOP_CBR (power), J8 GNDIOP_B (power), K5 GNDIOP_CUL (power), K6 GNDCORE_B / GNDIOP_B (power), K8 ~{WAKE} (in), L4 GNDIOP_CUR (power), L5 VDDIOP_D (power), L6 VDDIOP_E (power), L10 GNDCORE_E / GNDIOP_E (power), L12 VDDIOP_I (power), L13 GNDCORE_F / GNDIOP_F (power), M5 AVDDUSB (power), M6 VDDCORE_B (power), M7 VBG (in), N6 AGNDUSB (power), N7 FSDP (out), N8 HSDP (in), N10 VDDIOP_J (power), P5 XIN1 (in), P6 XOUT1 (out), P7 FSDM (out), P8 HSDM (io)

## AT32UC3A-QFP64
designator U?
Status: Active; Verified by: Eirik Rasmussen; Verified date: 2006-09-01
pins: 1 PX0 (io), 2 PX1 (io), 3 PB20, 4 PX2 (io), 5 PB21, 6 PB22, 7 VCC0 (power), 8 GND0 (power), 9 PB23, 10 PX3 (io), 11 PB24, 12 PX4 (io), 13 PB25, 14 PB26, 15 PB27, 16 VDDOUT (power), 17 VCCIN (power), 18 GND1 (power), 19 PB28, 20 PB29, 21 PB30, 22 PB31, 23 RESET_n (in), 24 PX5 (io), 25 PA0 (io), 26 PX6 (io), 27 PA1 (io), 28 GND2 (power), 29 VDD1 (power), 30 PA2 (io), 31 PX7 (io), 32 PA3 (io), 33 PX8 (io), 34 PA4 (io), 35 PX9 (io), 36 VCC2 (power), 37 GND3 (power), 38 PX10 (io), 39 PA5 (io), 40 PX11 (io), 41 PA6 (io), 42 PX12 (io), 43 PA7 (io), 44 PX13 (io), 45 PA8 (io), 46 PX14 (io), 47 PA9 (io), 48 PA10 (io), 49 VMARGIN (in), 50 PA11 (io), 51 VDD2 (power), 52 GND4 (power), 53 PA12 (io), 54 PA13 (io), 55 VDD3 (power), 56 PA14 (io), 57 PA15 (io), 58 PA16 (io), 59 PX15 (io), 60 PA17 (io), 61 PX16 (io), 62 PA18 (io), 63 PX17 (io), 64 PA19 (io), 65 PX18 (io), 66 PA20 (io), 67 PX19 (io), 68 VBUS (power), 69 VCC3 (power), 70 DM (io), 71 DP (io), 72 GND5 (power), 73 PA21 (io), 74 PA22 (io), 75 PA23 (io), 76 PA24 (io), 77 PA25 (io), 78 PA26 (io), 79 PA27 (io), 80 PA28 (io), 81 VANA, 82 ADVREF (in), 83 AGND (power), 84 VDDSYS (power), 85 PC0 (io), 86 PC1 (io), 87 PX20 (io), 88 PB0, 89 PX21 (io), 90 PB1, 91 PX22 (io), 92 VBOOST (power), 93 VCC5 (power), 94 GND6 (power), 95 PX23 (io), 96 PB2, 97 PX24 (io), 98 PB3, 99 PX25 (io), 100 PB4, 101 PX26 (io), 102 PB5, 103 PX27 (io), 104 PB6, 105 PX28 (io), 106 PB7, 107 PX29 (io), 108 VCC6 (power), 109 GND7 (power), 110 PX30 (io), 111 PB8, 112 PX31 (io), 113 PB9, 114 PX32 (io), 115 PB10, 116 VCC7 (power), 117 GND8 (power), 118 PX33 (io), 119 PB11, 120 PX34 (io), 121 PB12, 122 PA29 (io), 123 PA30 (io), 124 PC2 (io), 125 PC3 (io), 126 PB13, 127 PB14, 128 TMS (in), 129 TCK (in), 130 TDO (out), 131 TDI (in), 132 PC4 (io), 133 PC5 (io), 134 PB15, 135 PX35 (io), 136 PB16, 137 PX36 (io), 138 VDD4 (power), 139 PB17, 140 PX37 (io), 141 PB18, 142 PX38 (io), 143 PB19, 144 PX39 (io)

## AT32UC3B-QFP44
designator U?
pins: 1 GND1, 2 TCK, 3 TDI, 4 TDO, 5 TMS, 6 PB0, 7 PB1, 8 VDDcore1, 9 PA3, 10 PA4, 11 PA5, 12 PA6, 13 PA7, 14 PA8, 15 PA30, 16 PA31, 17 AGND1, 18 AREF, 19 AVDD, 20 VDDout, 21 VDDin, 22 VDDcore2, 23 GND2, 24 PB2, 25 PB3, 26 PB4, 27 PB5, 28 PA9, 29 PA10, 30 PA11, 31 PA12, 32 VDDio1, 33 PA13, 34 PA14, 35 PA15, 36 PA16, 37 PA17, 38 PB6, 39 PA18, 40 PA19, 41 PA28, 42 PA29, 43 PB7, 44 PA20, 45 PA21, 46 PA22, 47 PA23, 48 VDDio2, 49 GND3, 50 DP, 51 DM, 52 VBUS, 53 VDDpll, 54 PB8, 55 PB9, 56 VDDcore3, 57 PB10, 58 PB11, 59 PA24, 60 PA25, 61 PA26, 62 PA27, 63 RESETn, 64 VDDio3